# EAGLE library part SAA1064 (library EW_IC_Drivers)
I2C-Bus 4-digit LED-DRIVER
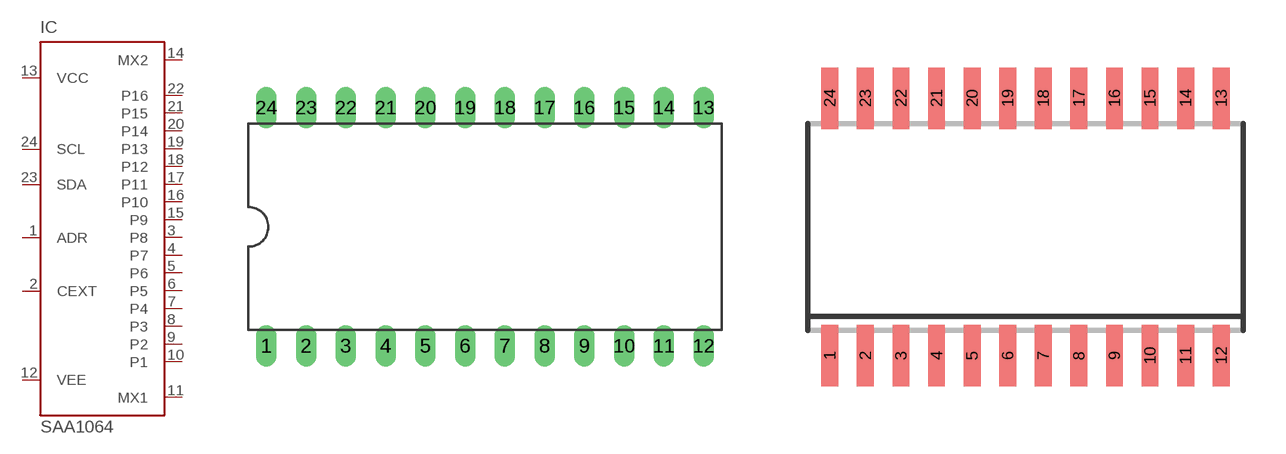
[diagram p93: symbol with the pads of DIL24-6; footprints DIL24-6, SO24]

Designator prefix IC

## SAA1064 (MPN: SAA1064/N2,112; OC_FARNELL: 1627002; OC_NEWARK: 70R8646)  [DIL24-6]
1  ADR  in
2  CEXT  in
3  P8  out
4  P7  out
5  P6  out
6  P5  out
7  P4  out
8  P3  out
9  P2  out
10  P1  out
11  MX1  out
12  VEE  pwr
13  VCC  pwr
14  MX2  out
15  P9  out
16  P10  out
17  P11  out
18  P12  out
19  P13  out
20  P14  out
21  P15  out
22  P16  out
23  SDA  in
24  SCL  in

## SAA1064T (MPN: SAA1064T/N2,118; OC_FARNELL: unknown; OC_NEWARK: 70R8648)  [SO24]
Pads as for DIL24-6

## Footprint DIL24-6 (pad centres in mm)
Dual In Line Package 0.6 inch
drill 0.813 long: 1 -13.97,-7.62; 2 -11.43,-7.62; 3 -8.89,-7.62; 4 -6.35,-7.62; 5 -3.81,-7.62; 6 -1.27,-7.62; 7 1.27,-7.62; 8 3.81,-7.62; 9 6.35,-7.62; 10 8.89,-7.62; 11 11.43,-7.62; 12 13.97,-7.62; 13 13.97,7.62; 14 11.43,7.62; 15 8.89,7.62; 16 6.35,7.62; 17 3.81,7.62; 18 1.27,7.62; 19 -1.27,7.62; 20 -3.81,7.62; 21 -6.35,7.62; 22 -8.89,7.62; 23 -11.43,7.62; 24 -13.97,7.62

## Footprint SO24 (pad centres in mm)
Small Outline Package 7.6 x 15.74 mm
smd 0.6 x 2.2: 1 -6.985,-4.6; 2 -5.715,-4.6; 3 -4.445,-4.6; 4 -3.175,-4.6; 5 -1.905,-4.6; 6 -0.635,-4.6; 7 0.635,-4.6; 8 1.905,-4.6; 9 3.175,-4.6; 10 4.445,-4.6; 11 5.715,-4.6; 12 6.985,-4.6; 13 6.985,4.6; 14 5.715,4.6; 15 4.445,4.6; 16 3.175,4.6; 17 1.905,4.6; 18 0.635,4.6; 19 -0.635,4.6; 20 -1.905,4.6; 21 -3.175,4.6; 22 -4.445,4.6; 23 -5.715,4.6; 24 -6.985,4.6